# Altium footprint library SOP-10.PcbLib: 1 footprints
Each footprint in its own frame and in the unit in brackets; x right, y up, seen from the top. Pads: shape width x height; smd on the part's side, far side on the other; paste and mask are expansions set on the pad; w line width, h text height; cw(c..) or ccw(c..) is an arc to the next point about the centre after c.
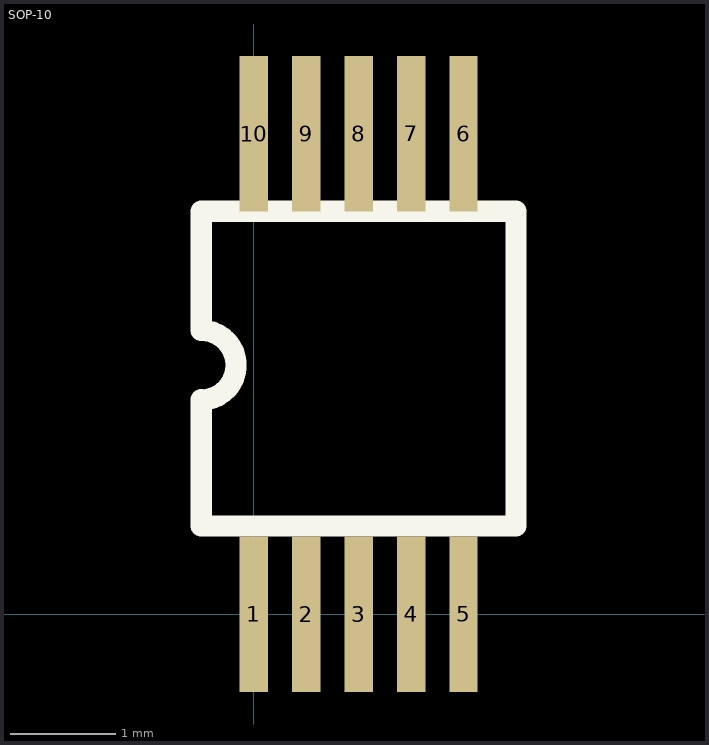
[diagram p0: the footprint, top view; thin cyan lines are the x and y axes]

## SOP-10 [mm]
height 1.1
pads (10):
  rect 0.27x1.483 smd: 1(0,0) 2(0.5,0) 3(1,0) 4(1.5,0) 5(2,0) 6(2,4.585) 7(1.5,4.585) 8(1,4.585) 9(0.5,4.585) 10(0,4.585)
TopOverlay:
  lines w0.203: -0.5,0.843 -0.5,2.045 ccw(c-0.5,2.377) -0.5,2.708 -0.5,3.843 2.5,3.843 2.5,0.843 -0.5,0.843